# Altium schematic symbol library IC_TLV431_TO92.Schlib: 1 symbol
Pins are listed as number, name and electrical type; pins without a type are passive.

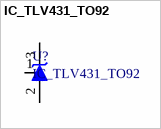
[diagram p0: symbol IC_TLV431_TO92]

## IC_TLV431_TO92
designator U?
pins: 1 Ref, 2 A, 3 C